# EAGLE library part UBLOX-MAX-M8X (library X893)
MAX-M8C MAX-M8Q MAX-M8W MAX-M8 Hardware Integration Manual <http://www.u-blox.com/images/downloads/Product_Docs/MAX-M8_HardwareIntegrationManual_(UBX-13004876).pdf>
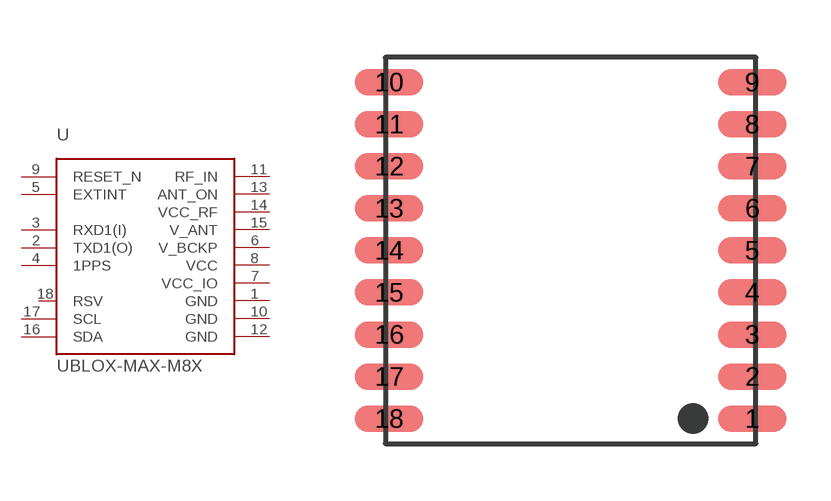
[diagram p218: symbol with the pads of MAX-M8-L7X; footprint MAX-M8-L7X]

Designator prefix U

## UBLOX-MAX-M8X  [MAX-M8-L7X]
1  GND  pwr
2  TXD1(O)  out
3  RXD1(I)  in
4  1PPS  out
5  EXTINT  in
6  V_BCKP  pas
7  VCC_IO  pas
8  VCC  pwr
9  RESET_N  in
10  GND  pwr
11  RF_IN  pas
12  GND  pwr
13  ANT_ON  out
14  VCC_RF  pas
15  V_ANT  pas
16  SDA  oc
17  SCL  oc
18  RSV  nc

## Footprint MAX-M8-L7X (pad centres in mm)
smd 1.8 x 0.7: 1 4.75,-4.4; 2 4.75,-3.3; 3 4.75,-2.2; 4 4.75,-1.1; 5 4.75,0; 6 4.75,1.1; 7 4.75,2.2; 8 4.75,3.3; 9 4.75,4.4; 10 -4.75,4.4; 11 -4.75,3.3; 12 -4.75,2.2; 13 -4.75,1.1; 14 -4.75,0; 15 -4.75,-1.1; 16 -4.75,-2.2; 17 -4.75,-3.3; 18 -4.75,-4.4